# Altium footprint library DIP-DBL  0607.PCBLIB: 54 footprints (part 1 of 4)
Each footprint in its own frame and in the unit in brackets; x right, y up, seen from the top. Pads: shape width x height; smd on the part's side, far side on the other; paste and mask are expansions set on the pad; w line width, h text height; cw(c..) or ccw(c..) is an arc to the next point about the centre after c.
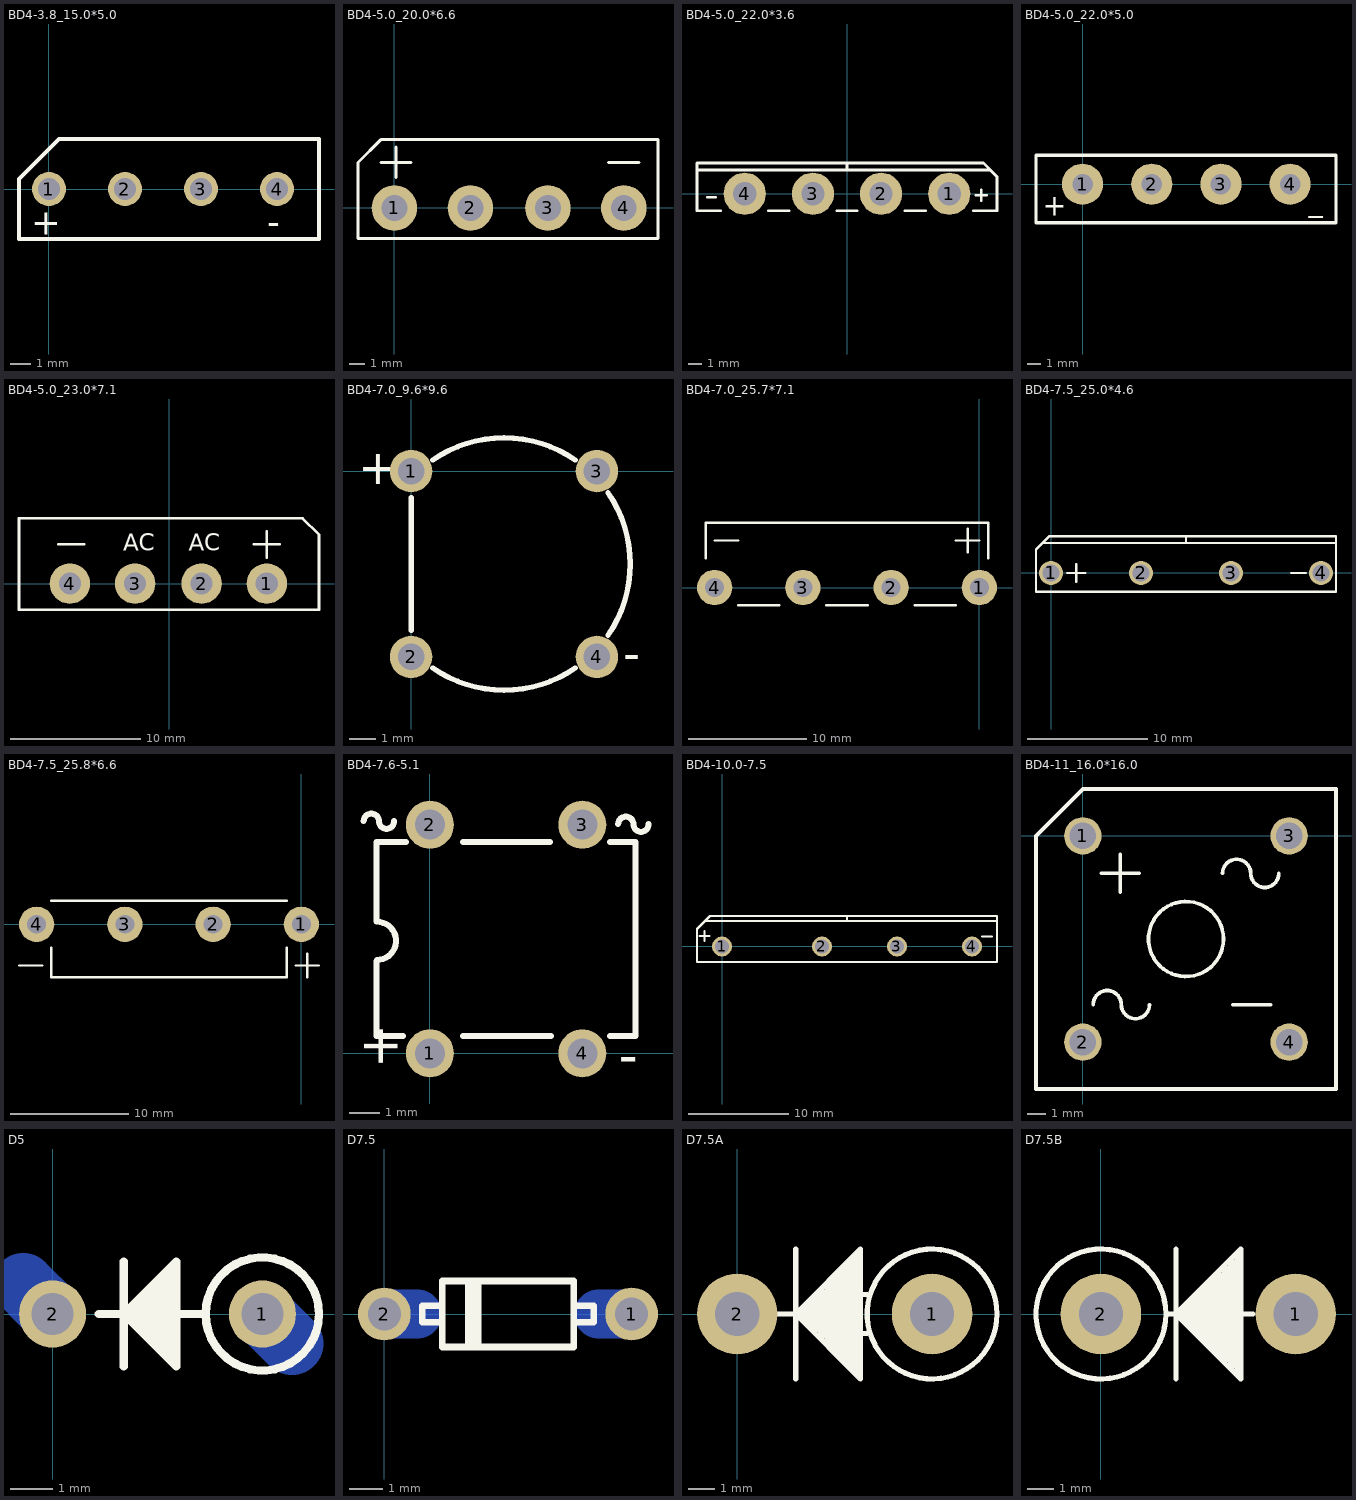
[diagram p0: the footprints below, top view; thin cyan lines are the x and y axes]

## BD4-3.8_15.0*5.0 [mm]
pads (4):
  round 1.7 hole 1.1: 1(0,0) 2(3.8,0) 3(7.6,0) 4(11.4,0)
TopOverlay:
  lines w0.2: -1.5,-2.5 13.5,-2.5 13.5,2.5 0.5,2.5 -1.5,0.5 -1.5,-2.5
  text "+" at -0.889,-2.286 h1.3
  text "-" at 10.922,-2.286 h1.3

## BD4-5.0_20.0*6.6 [mm]
height 16
pads (4):
  round 3 hole 1.7: 1(0,0) 2(5,0) 3(10.1,0) 4(15.1,0)
TopOverlay:
  lines w0.2: -0.9,3 1.1,3 ; 0.1,2 0.1,4 ; 14.1,3 16.1,3 ; -2.4,-2 -2.4,3 -0.9,4.5 17.35,4.5 17.35,-2 -2.4,-2

## BD4-5.0_22.0*3.6 [mm]
height 18.8
pads (4):
  round 3.1 hole 1.7: 1(7.5,0) 2(2.5,0) 3(-2.5,0) 4(-7.5,0)
TopOverlay:
  lines w0.2: -11,1.75 10.5,1.75 ; -10.25,-0.25 -9.65,-0.25 ; -9.25,-1.25 -11,-1.25 -11,2.25 10,2.25 11,1.25 11,-1.25 9.25,-1.25 ; -5.75,-1.25 -4.25,-1.25 ; -0.75,-1.25 0.75,-1.25 ; 0,1.75 0,2.25 ; 4.25,-1.25 5.75,-1.25 ; 9.45,-0.1 10.25,-0.1 ; 9.85,-0.5 9.85,0.3

## BD4-5.0_22.0*5.0 [mm]
pads (4):
  round 3 hole 1.5: 1(-0.012,-0.003) 2(5.038,-0.003) 3(10.088,-0.003) 4(15.138,-0.003)
TopOverlay:
  lines w0.254: -3.412,-2.803 -3.412,2.097 -0.012,2.097 18.488,2.097 18.488,-2.803 -3.412,-2.803
  text "+" at -2.912,-2.303 h1.52
  text "_" at 16.488,-2.003 h1.52

## BD4-5.0_23.0*7.1 [mm]
pads (4):
  round 3.1 hole 1.7: 1(7.5,0) 2(2.5,0) 3(-2.6,0) 4(-7.6,0)
TopOverlay:
  lines w0.2: -8.5,3 -6.5,3 ; 6.5,3 8.5,3 ; 7.5,2 7.5,4 ; -11.5,-2 -11.5,5 10.25,5 11.5,3.75 11.5,3.25 11.5,-0.25 11.5,-2 -11.5,-2
  text "AC" at -3.5,2.5 h1.3
  text "AC" at 1.5,2.5 h1.3

## BD4-7.0_9.6*9.6 [mm]
height 5.6
pads (4):
  round 1.6 hole 1: 1(0,0) 2(0,-7) 3(7,0) 4(7,-7)
TopOverlay:
  lines w0.2: 0,-6 0,-1 ; 0.809,-7.415 ccw(c3.5,-3.5) 6.191,-7.415 ; 0.809,0.415 cw(c3.5,-3.5) 6.191,0.415 ; 7.415,-6.191 ccw(c3.5,-3.5) 7.415,-0.809
  text "-" at 8,-7.5 h1.3
  text "+" at -2,-0.5 h1.3

## BD4-7.0_25.7*7.1 [mm]
pads (4):
  round 3 hole 1.6: 1(0,0) 2(-7.5,0) 3(-15,0) 4(-22.5,0)
TopOverlay:
  lines w0.2: -23.25,2.5 -23.25,5.5 0.75,5.5 0.75,2.5 ; -22.5,4 -20.5,4 ; -20.5,-1.5 -17,-1.5 ; -13,-1.5 -9.5,-1.5 ; -5.5,-1.5 -2,-1.5 ; -2,4 0,4 ; -1,3 -1,5

## BD4-7.5_25.0*4.6 [mm]
height 15
pads (4):
  round 2 hole 1.4: 1(0,0) 2(7.5,0) 3(15,0) 4(22.5,0)
TopOverlay:
  lines w0.2: -0.7,2.5 23.75,2.5 ; 1.35,0 2.85,0 ; 2.1,-0.75 2.1,0.75 ; 11.25,2.5 11.25,3.05 ; 20,0 21.25,0 ; -0.2,3 -1.25,1.95 -1.25,-1.55 23.75,-1.55 23.75,3.05 -0.15,3.05 -0.2,3 ; -0.2,3 -0.2,3

## BD4-7.5_25.8*6.6 [mm]
pads (4):
  round 3 hole 1.6: 1(0,0) 2(-7.5,0) 3(-15,0) 4(-22.5,0)
TopOverlay:
  lines w0.2: -24,-3.5 -22,-3.5 ; -21.25,-2 -21.25,-4.5 -1.25,-4.5 -1.25,-2 ; -21.25,2 -1.25,2 ; -0.5,-3.5 1.5,-3.5 ; 0.5,-4.5 0.5,-2.5

## BD4-7.6-5.1 [mm]
height 3.3
pads (4):
  round 1.6 hole 1: 1(0,0) 2(0,7.62) 3(5.08,7.62) 4(5.08,0)
TopOverlay:
  lines w0.2: -2.208,7.734 cw(c-1.954,7.734) -1.7,7.734 ccw(c-1.446,7.734) -1.192,7.734 ; -1.778,3.073 -1.778,0.57 -0.9,0.57 ; -1.778,4.394 -1.778,7.05 -0.8,7.05 ; -1.762,3.115 ccw(c-1.762,3.75) -1.762,4.385 ; 1.1,0.57 4.03,0.57 ; 1.1,7.05 4,7.05 ; 6,0.57 6.858,0.57 6.858,7.05 6,7.05 ; 6.272,7.634 cw(c6.526,7.634) 6.78,7.634 ccw(c7.034,7.634) 7.288,7.634
  text "+" at -1.065,-0.522 h1.3
  text "-" at 6.3,-0.7 h1.3

## BD4-10.0-7.5 [mm]
height 20
pads (4):
  round 2 hole 1.4: 1(0,0) 2(10,0) 3(17.5,0) 4(25,0)
TopOverlay:
  lines w0.2: -2.25,1.05 -1.25,1.05 ; -1.75,0.55 -1.75,1.55 ; -1.707,2.543 27.5,2.538 ; 12.5,2.538 12.5,2.938 ; 26,1 27,1 ; -2.5,-1.55 -1.25,-1.55 23.75,-1.55 27.5,-1.55 27.5,3.05 23.75,3.05 -1.2,3.05 -2.5,1.75 -2.5,-1.55

## BD4-11_16.0*16.0 [mm]
pads (4):
  round 2 hole 1.4: 1(0,0) 2(0,-11) 3(11,0) 4(11,-11)
TopOverlay:
  circle w0.2: c5.5,-5.5 r2
  lines w0.2: 0.55,-9 cw(c1.3,-9) 2.05,-9 ccw(c2.8,-9) 3.55,-9 ; 1,-2 3,-2 ; 2,-3 2,-1 ; 7.45,-2 cw(c8.2,-2) 8.95,-2 ccw(c9.7,-2) 10.45,-2 ; 8,-9 10,-9 ; -2.5,-13.5 -2.5,0 0,2.5 13.5,2.5 13.5,-13.5 -2.5,-13.5

## D5 [mm]
pads (2):
  round 1.6 hole 1: 1(5,0) 2(0,0)
BottomLayer:
  lines w1.5: -0.707,0.707 0,0 ; 5,0 5.707,-0.707
TopOverlay:
  circle w0.2: c5,0 r1.35
  rectangle: 1.8,-0.1 1.9,0.1
  rectangle: 1.9,-0.3 2.1,0.3
  rectangle: 2.1,-0.5 2.3,0.5
  rectangle: 2.3,-0.7 2.5,0.7
  rectangle: 2.5,-0.9 2.8,0.9
  rectangle: 2.7,-1 2.9,1
  lines w0.2: 1.1,0 1.7,0 ; 1.7,-1.25 1.7,1.25 ; 2.9,0 3.65,0 ; 1.7,0 2.95,1.25 2.95,-1.25 1.7,0
BottomSolder:
  lines w1: -0.707,0.707 0,0 ; 5,0 5.707,-0.707

## D7.5 [mm]
pads (2):
  round 1.6 hole 1: 1(7.5,0) 2(0,0)
BottomLayer:
  lines w1.5: 0,0 1,0 ; 6.5,0 7.5,0
TopOverlay:
  rectangle: 2.45,-1 2.95,1
  lines w0.2: 1.75,-0.25 1.15,-0.25 1.15,0.25 1.75,0.25 ; 5.75,-0.25 6.35,-0.25 6.35,0.25 5.75,0.25 ; 1.75,-1 5.75,-1 5.75,1 1.75,1 1.75,-1
BottomSolder:
  lines w1: 0,0 1,0 ; 6.5,0 7.5,0

## D7.5A [mm]
pads (2):
  round 3.1 hole 1.7: 1(7.5,0) 2(0,0)
TopOverlay:
  circle w0.2: c7.5,0 r2.5
  rectangle: 4.5,-2.25 4.75,2.25
  rectangle: 4.25,-2.1 4.5,2.1
  rectangle: 4,-1.85 4.25,1.85
  rectangle: 3.75,-1.65 4,1.6
  rectangle: 3.55,-1.4 3.75,1.4
  rectangle: 3.35,-1.15 3.55,1.2
  rectangle: 3.1,-0.95 3.35,0.95
  rectangle: 2.95,-0.7 3.1,0.75
  rectangle: 2.75,-0.55 2.95,0.55
  rectangle: 2.55,-0.35 2.75,0.4
  rectangle: 2.4,-0.15 2.55,0.2
  lines w0.2: 1.5,0 2.25,0 ; 2.25,-2.5 2.25,2.5 ; 4.75,-0.75 5,-0.75 ; 4.75,0.75 5,0.75 ; 2.25,0 4.75,-2.5 4.75,2.5 2.25,0

## D7.5B [mm]
pads (2):
  round 3.1 hole 1.7: 1(7.5,0) 2(0,0)
TopOverlay:
  circle w0.2: c0,0 r2.5
  rectangle: 3.035,-0.15 3.185,0.2
  rectangle: 3.185,-0.35 3.385,0.4
  rectangle: 3.385,-0.55 3.585,0.55
  rectangle: 3.585,-0.7 3.735,0.75
  rectangle: 3.735,-0.95 3.985,0.95
  rectangle: 3.985,-1.15 4.185,1.2
  rectangle: 4.185,-1.4 4.385,1.4
  rectangle: 4.385,-1.65 4.635,1.6
  rectangle: 4.635,-1.85 4.885,1.85
  rectangle: 4.885,-2.1 5.135,2.1
  rectangle: 5.135,-2.25 5.385,2.25
  lines w0.2: 2.54,0 2.885,0 ; 2.885,-2.5 2.885,2.5 ; 5.385,0 5.842,0 ; 2.885,0 5.385,2.5 5.385,-2.5 2.885,0